# EAGLE library part STM32L151VEY6TR (library circuit_tree)
IC
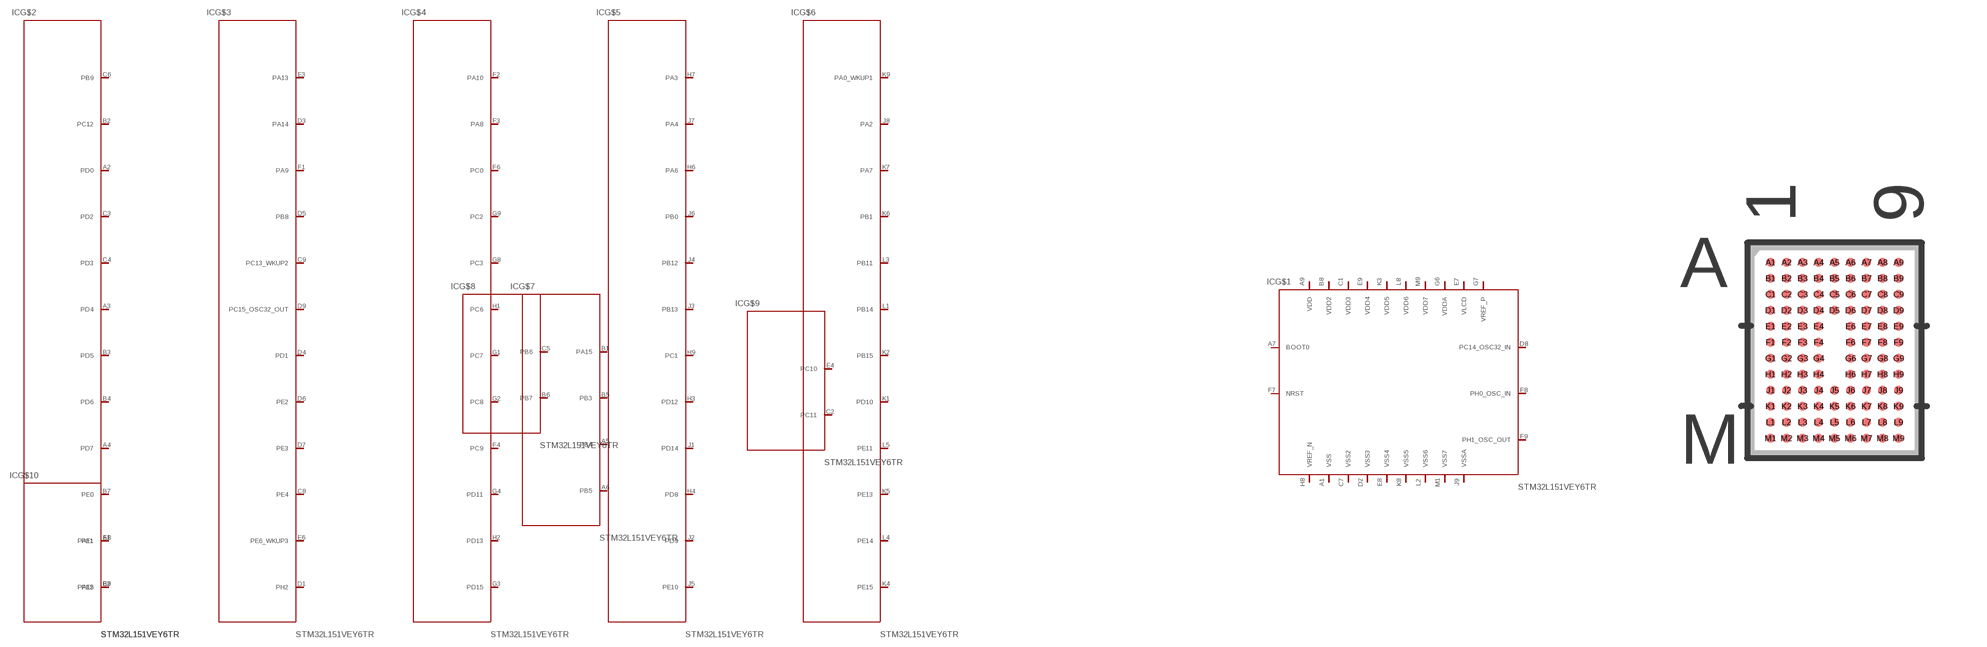
[diagram p6: symbol with the pads of WLCSP104; footprint WLCSP104]

Designator prefix IC; gates G$1=STM32L151VEY6TR G$2=STM32L151VEY6TR2 G$3=STM32L151VEY6TR3 G$4=STM32L151VEY6TR4 G$5=STM32L151VEY6TR5 G$6=STM32L151VEY6TR6 G$7=STM32L151VEY6TR7 G$8=STM32L151VEY6TR8 G$9=STM32L151VEY6TR9 G$10=STM32L151VEY6TR10

## STM32L151VEY6TR  [WLCSP104]
A1  G$1:VSS  pas
A2  G$2:PD0  pas
A3  G$2:PD4  pas
A4  G$2:PD7  pas
A5  G$7:PB4  pas
A6  G$7:PB5  pas
A7  G$1:BOOT0  pas
A8  G$2:PE1  pas
A9  G$1:VDD  pas
B1  G$7:PA15  pas
B2  G$2:PC12  pas
B3  G$2:PD5  pas
B4  G$2:PD6  pas
B5  G$7:PB3  pas
B6  G$8:PB7  pas
B7  G$2:PE0  pas
B8  G$1:VDD2  pas
B9  G$2:PE5  pas
C1  G$1:VDD3  pas
C2  G$9:PC11  pas
C3  G$2:PD2  pas
C4  G$2:PD3  pas
C5  G$8:PB6  pas
C6  G$2:PB9  pas
C7  G$1:VSS2  pas
C8  G$3:PE4  pas
C9  G$3:PC13_WKUP2  pas
D1  G$3:PH2  pas
D2  G$1:VSS3  pas
D3  G$3:PA14  pas
D4  G$3:PD1  pas
D5  G$3:PB8  pas
D6  G$3:PE2  pas
D7  G$3:PE3  pas
D8  G$1:PC14_OSC32_IN  pas
D9  G$3:PC15_OSC32_OUT  pas
E1  G$10:PA11  pas
E2  G$10:PA12  pas
E3  G$3:PA13  pas
E4  G$9:PC10  pas
E6  G$3:PE6_WKUP3  pas
E7  G$1:VLCD  pas
E8  G$1:VSS4  pas
E9  G$1:VDD4  pas
F1  G$3:PA9  pas
F2  G$4:PA10  pas
F3  G$4:PA8  pas
F4  G$4:PC9  pas
F6  G$4:PC0  pas
F7  G$1:NRST  pas
F8  G$1:PH0_OSC_IN  pas
F9  G$1:PH1_OSC_OUT  pas
G1  G$4:PC7  pas
G2  G$4:PC8  pas
G3  G$4:PD15  pas
G4  G$4:PD11  pas
G6  G$1:VDDA  pas
G7  G$1:VREF_P  pas
G8  G$4:PC3  pas
G9  G$4:PC2  pas
H1  G$4:PC6  pas
H2  G$4:PD13  pas
H3  G$5:PD12  pas
H4  G$5:PD8  pas
H6  G$5:PA6  pas
H7  G$5:PA3  pas
H8  G$1:VREF_N  pas
H9  G$5:PC1  pas
J1  G$5:PD14  pas
J2  G$5:PD9  pas
J3  G$5:PB13  pas
J4  G$5:PB12  pas
J5  G$5:PE10  pas
J6  G$5:PB0  pas
J7  G$5:PA4  pas
J8  G$6:PA2  pas
J9  G$1:VSSA  pas
K1  G$6:PD10  pas
K2  G$6:PB15  pas
K3  G$1:VDD5  pas
K4  G$6:PE15  pas
K5  G$6:PE13  pas
K6  G$6:PB1  pas
K7  G$6:PA7  pas
K8  G$1:VSS5  pas
K9  G$6:PA0_WKUP1  pas
L1  G$6:PB14  pas
L2  G$1:VSS6  pas
L3  G$6:PB11  pas
L4  G$6:PE14  pas
L5  G$6:PE11  pas
L8  G$1:VDD6  pas
M1  G$1:VSS7  pas
M9  G$1:VDD7  pas

## Footprint WLCSP104 (pad centres in mm)
smd 0.229 x 0.229: A1 -1.6,2.2; A2 -1.2,2.2; A3 -0.8,2.2; A4 -0.4,2.2; A5 0,2.2; A6 0.4,2.2; A7 0.8,2.2; A8 1.2,2.2; A9 1.6,2.2; B1 -1.6,1.8; B2 -1.2,1.8; B3 -0.8,1.8; B4 -0.4,1.8; B5 0,1.8; B6 0.4,1.8; B7 0.8,1.8; B8 1.2,1.8; B9 1.6,1.8; C1 -1.6,1.4; C2 -1.2,1.4; C3 -0.8,1.4; C4 -0.4,1.4; C5 0,1.4; C6 0.4,1.4; C7 0.8,1.4; C8 1.2,1.4; C9 1.6,1.4; D1 -1.6,1; D2 -1.2,1; D3 -0.8,1; D4 -0.4,1; D5 0,1; D6 0.4,1; D7 0.8,1; D8 1.2,1; D9 1.6,1; E1 -1.6,0.6; E2 -1.2,0.6; E3 -0.8,0.6; E4 -0.4,0.6; E6 0.4,0.6; E7 0.8,0.6; E8 1.2,0.6; E9 1.6,0.6; F1 -1.6,0.2; F2 -1.2,0.2; F3 -0.8,0.2; F4 -0.4,0.2; F6 0.4,0.2; F7 0.8,0.2; F8 1.2,0.2; F9 1.6,0.2; G1 -1.6,-0.2; G2 -1.2,-0.2; G3 -0.8,-0.2; G4 -0.4,-0.2; G6 0.4,-0.2; G7 0.8,-0.2; G8 1.2,-0.2; G9 1.6,-0.2; H1 -1.6,-0.6; H2 -1.2,-0.6; H3 -0.8,-0.6; H4 -0.4,-0.6; H6 0.4,-0.6; H7 0.8,-0.6; H8 1.2,-0.6; H9 1.6,-0.6; J1 -1.6,-1; J2 -1.2,-1; J3 -0.8,-1; J4 -0.4,-1; J5 0,-1; J6 0.4,-1; J7 0.8,-1; J8 1.2,-1; J9 1.6,-1; K1 -1.6,-1.4; K2 -1.2,-1.4; K3 -0.8,-1.4; K4 -0.4,-1.4; K5 0,-1.4; K6 0.4,-1.4; K7 0.8,-1.4; K8 1.2,-1.4; K9 1.6,-1.4; L1 -1.6,-1.8; L2 -1.2,-1.8; L3 -0.8,-1.8; L4 -0.4,-1.8; L5 0,-1.8; L6 0.4,-1.8; L7 0.8,-1.8; L8 1.2,-1.8; L9 1.6,-1.8; M1 -1.6,-2.2; M2 -1.2,-2.2; M3 -0.8,-2.2; M4 -0.4,-2.2; M5 0,-2.2; M6 0.4,-2.2; M7 0.8,-2.2; M8 1.2,-2.2; M9 1.6,-2.2